# Altium footprint library IC_Tronics_GYPRO3300_eec_0.PcbLib: 1 footprints
Each footprint in its own frame and in the unit in brackets; x right, y up, seen from the top. Pads: shape width x height; smd on the part's side, far side on the other; paste and mask are expansions set on the pad; w line width, h text height; cw(c..) or ccw(c..) is an arc to the next point about the centre after c.
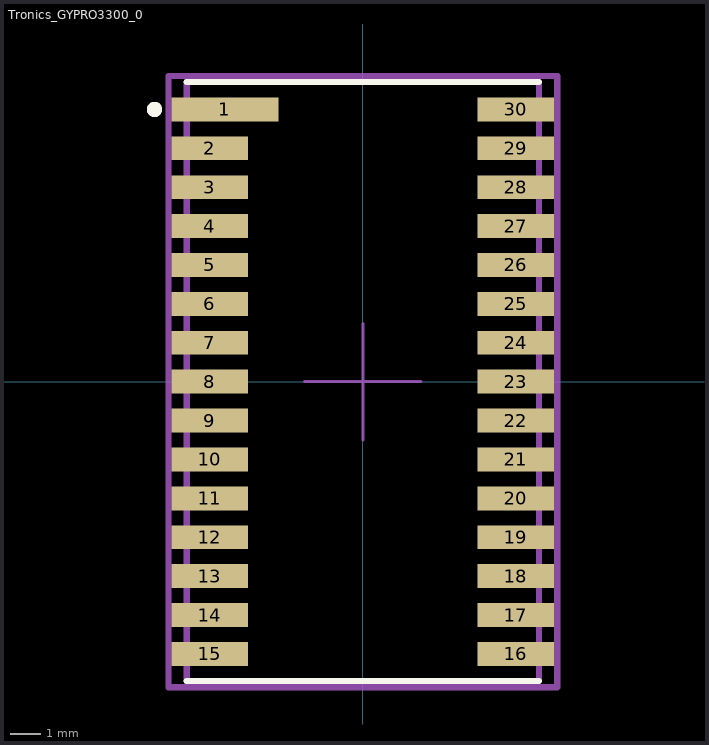
[diagram p0: the footprint, top view; thin cyan lines are the x and y axes]

## Tronics_GYPRO3300_0 [mm]
pads (30):
  rect 3.5x0.78 smd paste-1000 mask+0: 1(-4.5,8.89)
  rect 2.5x0.78 smd paste-1000 mask+0: 2(-5,7.62) 3(-5,6.35) 4(-5,5.08) 5(-5,3.81) 6(-5,2.54) 7(-5,1.27) 8(-5,0) 9(-5,-1.27) 10(-5,-2.54) 11(-5,-3.81) 12(-5,-5.08) 13(-5,-6.35) 14(-5,-7.62) 15(-5,-8.89) 16(5,-8.89) 17(5,-7.62) 18(5,-6.35) 19(5,-5.08) 20(5,-3.81) 21(5,-2.54) 22(5,-1.27) 23(5,0) 24(5,1.27) 25(5,2.54) 26(5,3.81) 27(5,5.08) 28(5,6.35) 29(5,7.62) 30(5,8.89)
Top Overlay:
  circle w0.25: c-6.8,8.89 r0.125
  lines w0.2: -5.75,-9.78 5.75,-9.78 ; -5.75,9.78 5.75,9.78
Top Paste:
  region: -5.75,9.21 -5.75,8.57 -2.9,8.57 -2.9,9.21
  region: -5.75,-8.57 -5.75,-9.21 -3.9,-9.21 -3.9,-8.57
  region: -5.75,-7.3 -5.75,-7.94 -3.9,-7.94 -3.9,-7.3
  region: -5.75,7.94 -5.75,7.3 -3.9,7.3 -3.9,7.94
  region: -5.75,6.67 -5.75,6.03 -3.9,6.03 -3.9,6.67
  region: -5.75,-6.03 -5.75,-6.67 -3.9,-6.67 -3.9,-6.03
  region: -5.75,-4.76 -5.75,-5.4 -3.9,-5.4 -3.9,-4.76
  region: -5.75,5.4 -5.75,4.76 -3.9,4.76 -3.9,5.4
  region: -5.75,4.13 -5.75,3.49 -3.9,3.49 -3.9,4.13
  region: -5.75,-3.49 -5.75,-4.13 -3.9,-4.13 -3.9,-3.49
  region: -5.75,-2.22 -5.75,-2.86 -3.9,-2.86 -3.9,-2.22
  region: -5.75,2.86 -5.75,2.22 -3.9,2.22 -3.9,2.86
  region: -5.75,-0.95 -5.75,-1.59 -3.9,-1.59 -3.9,-0.95
  region: -5.75,1.59 -5.75,0.95 -3.9,0.95 -3.9,1.59
  region: -5.75,0.32 -5.75,-0.32 -3.9,-0.32 -3.9,0.32
  region: 3.9,0.32 3.9,-0.32 5.75,-0.32 5.75,0.32
  region: 3.9,-8.57 3.9,-9.21 5.75,-9.21 5.75,-8.57
  region: 3.9,9.21 3.9,8.57 5.75,8.57 5.75,9.21
  region: 3.9,7.94 3.9,7.3 5.75,7.3 5.75,7.94
  region: 3.9,-7.3 3.9,-7.94 5.75,-7.94 5.75,-7.3
  region: 3.9,-6.03 3.9,-6.67 5.75,-6.67 5.75,-6.03
  region: 3.9,6.67 3.9,6.03 5.75,6.03 5.75,6.67
  region: 3.9,5.4 3.9,4.76 5.75,4.76 5.75,5.4
  region: 3.9,-4.76 3.9,-5.4 5.75,-5.4 5.75,-4.76
  region: 3.9,-3.49 3.9,-4.13 5.75,-4.13 5.75,-3.49
  region: 3.9,4.13 3.9,3.49 5.75,3.49 5.75,4.13
  region: 3.9,-2.22 3.9,-2.86 5.75,-2.86 5.75,-2.22
  region: 3.9,2.86 3.9,2.22 5.75,2.22 5.75,2.86
  region: 3.9,-0.95 3.9,-1.59 5.75,-1.59 5.75,-0.95
  region: 3.9,1.59 3.9,0.95 5.75,0.95 5.75,1.59
Mechanical 10:
  lines w0.2: -6.35,-9.98 6.35,-9.98 6.35,9.98 -6.35,9.98 -6.35,-9.98
  text ".Designator" at 0,0 h1
Mechanical 12:
  lines w0.2: -5.75,-9.78 5.75,-9.78 5.75,9.78 -5.75,9.78 -5.75,-9.78
Mechanical 15:
  lines w0.1: -1.905,0 1.905,0 ; 0,-1.905 0,1.905
  lines w0.2: -6.35,-9.98 6.35,-9.98 6.35,9.98 -6.35,9.98 -6.35,-9.98
3D body "IC_Tronics_GYPRO3300_eec.STEP": height 0.25, standoff 0, extent -6.35,-9.98 6.35,9.98